# EAGLE library part 615008143721 (library 632723100011_Eagle_WR-USB_rev19b)
WR-MJ Horizontal Plastic 8P8C Modular Jack Tab Down, 8 Pins=>Code : Con_I-O_MJ-H_Plastic_Down_615008143721 <http://katalog.we-online.de/media/images/eican/Con_I-O_MJ-H_Plastic_Down_615008143721_pf2.jpg> Details see: http://katalog.we-online.de/en/em/MJ_HORIZONTAL_PLASTIC_8P8C_TAB_DOWN <http://katalog.we-online.de/en/em/MJ_HORIZONTAL_PLASTIC_8P8C_TAB_DOWN1> Created 2014-07-10, Karrer Zheng 2014 (C) Würth Elektronik
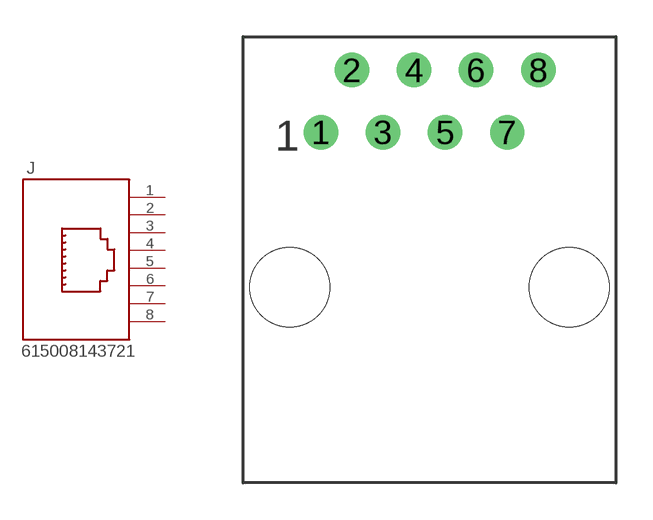
[diagram p117: symbol with the pads of 615008143721; footprint 615008143721]

Designator prefix J

## 615008143721  [615008143721]
1  8  pas
2  7  pas
3  6  pas
4  5  pas
5  4  pas
6  3  pas
7  2  pas
8  1  pas

## Footprint 615008143721 (pad centres in mm)
WR-MJ Horizontal Plastic 8P8C Modular Jack Tab Down, 8 Pins
drill 0.9: 1 -4.445,6.35; 2 -3.175,8.89; 3 -1.905,6.35; 4 -0.635,8.89; 5 0.635,6.35; 6 1.905,8.89; 7 3.175,6.35; 8 4.445,8.89
hole 3.25 at -5.715,0
hole 3.25 at 5.715,0